# EAGLE library part PINHEAD-EZ_PINHD-2X3 (library lightuino3.lbrlightuino3.1)
PIN HEADER
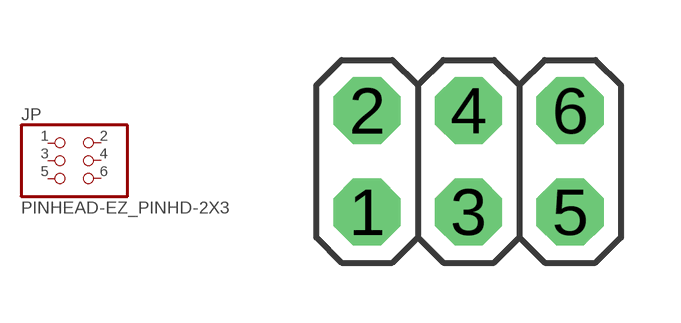
[diagram p6: symbol with the pads of PINHEAD-EZ_2X03; footprint PINHEAD-EZ_2X03]

Designator prefix JP

## PINHEAD-EZ_PINHD-2X3  [PINHEAD-EZ_2X03]
1  1  pas
2  2  pas
3  3  pas
4  4  pas
5  5  pas
6  6  pas

## Footprint PINHEAD-EZ_2X03 (pad centres in mm)
PIN HEADER
drill 1.016 pad 1.676 octagon: 1 -2.54,-1.27; 2 -2.54,1.27; 3 0,-1.27; 4 0,1.27; 5 2.54,-1.27; 6 2.54,1.27